# EAGLE library part 3.5IN_TFTLCD (library ds_displays)
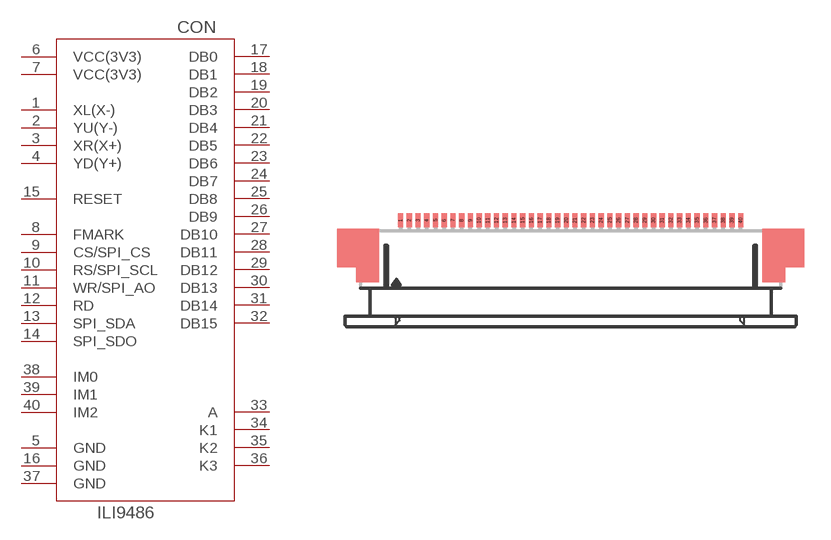
[diagram p4: symbol with the pads of FPC40; footprint FPC40]

Designator prefix CON

## 3.5IN_TFTLCD  [FPC40]
1  XL(X-)
2  YU(Y-)
3  XR(X+)
4  YD(Y+)
5  GND
6  VCC(3V3)
7  VCC(3V3)
8  FMARK
9  CS/SPI_CS
10  RS/SPI_SCL
11  WR/SPI_AO
12  RD
13  SPI_SDA
14  SPI_SDO
15  RESET
16  GND
17  DB0
18  DB1
19  DB2
20  DB3
21  DB4
22  DB5
23  DB6
24  DB7
25  DB8
26  DB9
27  DB10
28  DB11
29  DB12
30  DB13
31  DB14
32  DB15
33  A
34  K1
35  K2
36  K3
37  GND
38  IM0
39  IM1
40  IM2

## Footprint FPC40 (pad centres in mm)
smd 0.3 x 0.8: 1 -9.79,2.5; 2 -9.29,2.5; 3 -8.79,2.5; 4 -8.29,2.5; 5 -7.79,2.5; 6 -7.29,2.5; 7 -6.79,2.5; 8 -6.29,2.5; 9 -5.79,2.5; 10 -5.29,2.5; 11 -4.79,2.5; 12 -4.29,2.5; 13 -3.79,2.5; 14 -3.29,2.5; 15 -2.79,2.5; 16 -2.29,2.5; 17 -1.79,2.5; 18 -1.29,2.5; 19 -0.79,2.5; 20 -0.29,2.5; 21 0.21,2.5; 22 0.71,2.5; 23 1.21,2.5; 24 1.71,2.5; 25 2.21,2.5; 26 2.71,2.5; 27 3.21,2.5; 28 3.71,2.5; 29 4.21,2.5; 30 4.71,2.5; 31 5.21,2.5; 32 5.71,2.5; 33 6.21,2.5; 34 6.71,2.5; 35 7.21,2.5; 36 7.71,2.5; 37 8.21,2.5; 38 8.71,2.5; 39 9.21,2.5; 40 9.71,2.5